# Altium footprint library PAL.PcbLib: 271 footprints (part 16 of 17)
Each footprint in its own frame and in the unit in brackets; x right, y up, seen from the top. Pads: shape width x height; smd on the part's side, far side on the other; paste and mask are expansions set on the pad; w line width, h text height; cw(c..) or ccw(c..) is an arc to the next point about the centre after c.
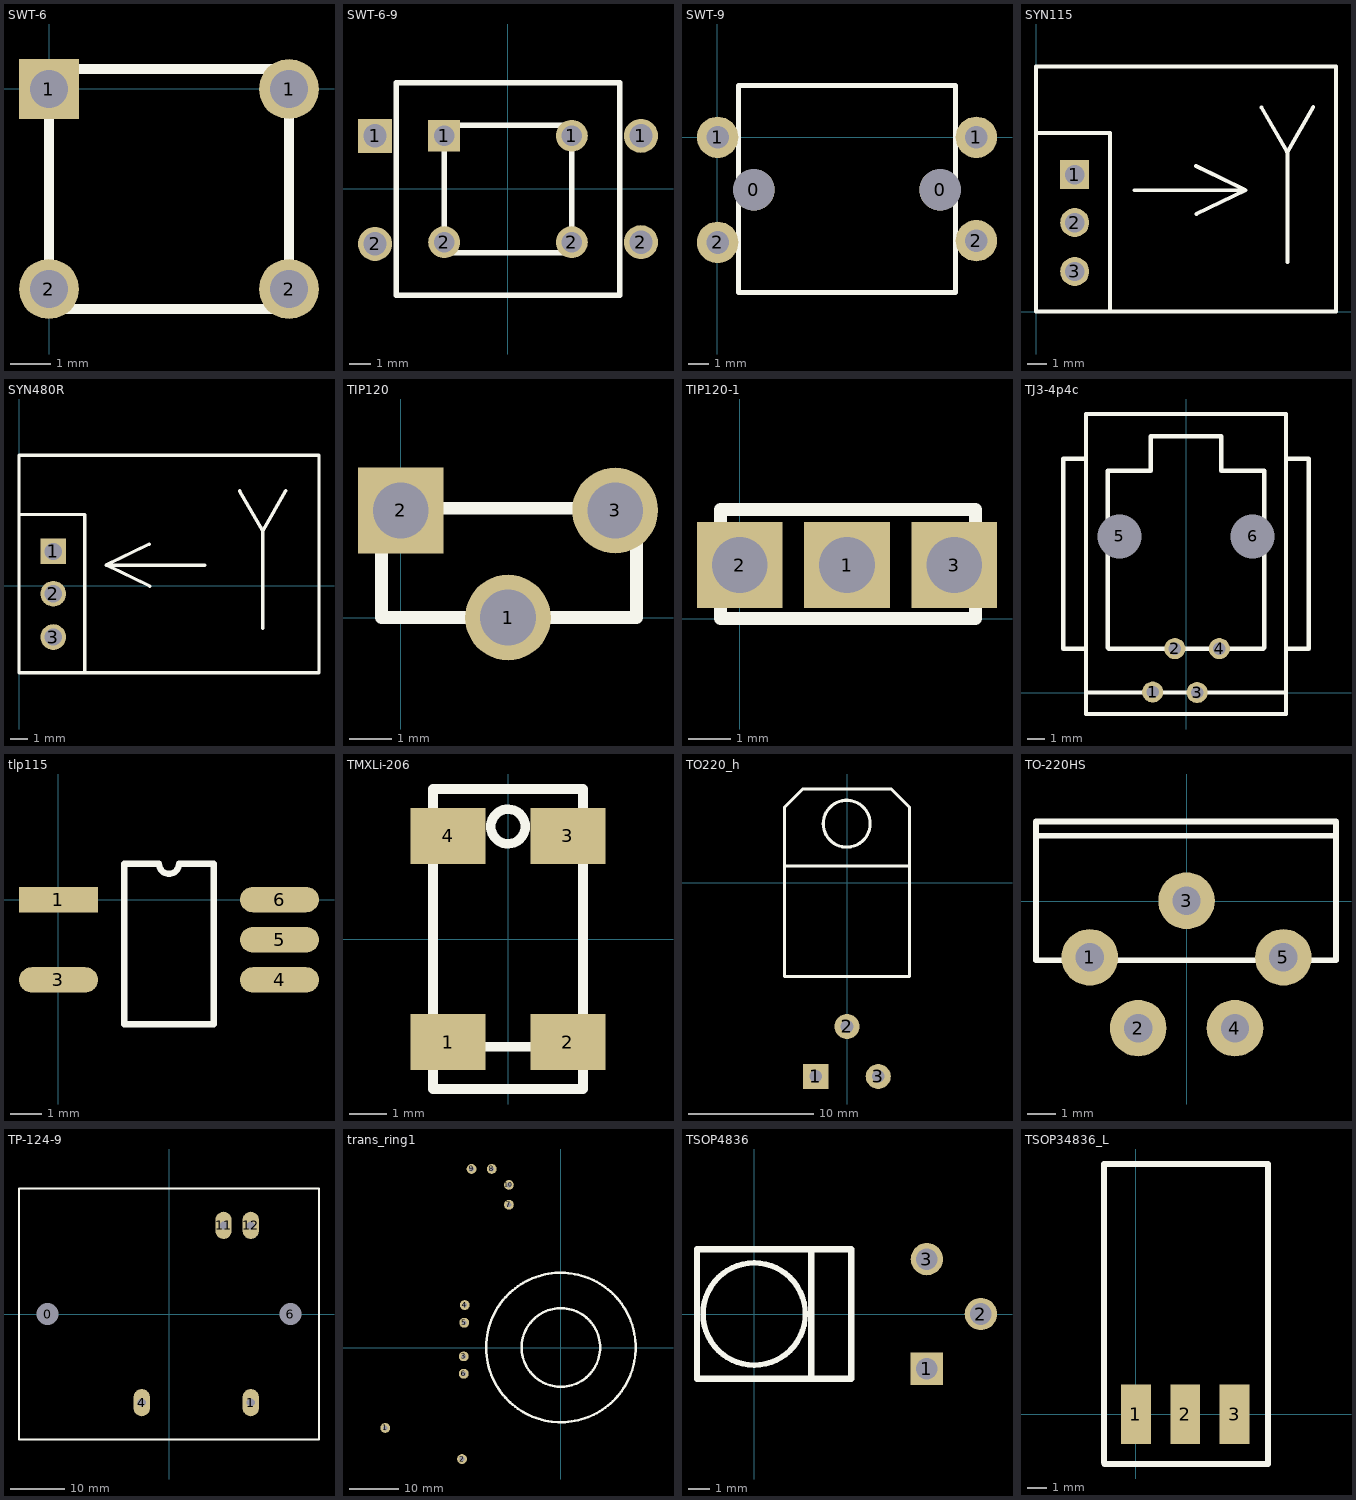
[diagram p15: the footprints below, top view; thin cyan lines are the x and y axes]

## SWT-6 [mm]
pads (4):
  rect 1.5x1.5 on Top hole 0.95: 1(-0.009,-0.001)
  round 1.5 on Top hole 0.95: 1(5.991,-0.001) 2(-0.009,-5.001) 2(5.991,-5.001)
Top Overlay:
  lines w0.254: -0.009,-5.501 5.991,-5.501 5.991,0.499 -0.009,0.499 -0.009,-5.501

## SWT-6-9 [mm]
pads (8):
  rect 1.6x1.6 on Top hole 1.1: 1(-6.241,2.491)
  rect 1.5x1.5 on Top hole 0.95: 1(-2.991,2.493)
  round 1.5 on Top hole 0.95: 1(3.009,2.493) 2(-2.991,-2.507) 2(3.009,-2.507)
  round 1.6 on Top hole 1.1: 1(6.259,2.491) 2(-6.241,-2.589) 2(6.259,-2.509)
Top Overlay:
  lines w0.254: -5.241,-5.009 -5.241,4.991 5.259,4.991 5.259,-5.009 -5.241,-5.009 ; -2.991,-3.007 -2.991,2.993 3.009,2.993 3.009,-3.007 -2.991,-3.007

## SWT-9 [mm]
pads (6):
  round 2 on Top hole 2: 0(1.775,-2.54) 0(10.775,-2.54)
  round 2 on Top hole 1.1: 1(0.025,0) 1(12.525,0) 2(0.025,-5.08) 2(12.525,-5)
Top Overlay:
  lines w0.254: 1.025,-7.5 11.525,-7.5 11.525,2.5 1.025,2.5 1.025,-7.5

## SYN115 [mm]
pads (3):
  rect 1.5x1.5 on Top hole 1: 1(2,7.075)
  round 1.5 on Top hole 1: 2(2,4.6) 3(2,2.075)
Top Overlay:
  lines w0.2: 0,0 0,12.675 15.5,12.675 15.5,0 0.025,0 0,0.025 ; 0,9.225 3.825,9.225 3.825,0 ; 5.075,6.275 10.825,6.275 8.3,5.05 ; 8.275,7.525 10.8,6.3 ; 11.65,10.55 12.975,8.25 ; 13,2.575 13,8.3 ; 13,8.275 14.325,10.575

## SYN480R [mm]
pads (3):
  rect 1.5x1.5 on Top hole 1: 1(2,2)
  round 1.5 on Top hole 1: 2(2,-0.475) 3(2,-3)
Top Overlay:
  lines w0.2: 0,-5.075 0,7.6 17.5,7.6 17.5,-5.075 0.025,-5.075 0,-5.05 ; 0,4.15 3.825,4.15 3.825,-5.075 ; 5.1,1.2 7.625,-0.025 ; 7.6,2.425 5.075,1.2 10.825,1.2 ; 12.875,5.525 14.2,3.225 ; 14.225,-2.5 14.225,3.225 15.55,5.525

## TIP120 [mm]
pads (3):
  round 2 on Top hole 1.3: 1(2.5,0) 3(5,2.5)
  rect 2x2 on Top hole 1.3: 2(0,2.5)
Top Overlay:
  lines w0.3: -0.45,0 0,0 5.5,0 5.5,2.55 -0.45,2.55 -0.45,0

## TIP120-1 [mm]
pads (3):
  rect 2x2 on Top hole 1.3: 1(2.5,1.25) 2(0,1.25) 3(5,1.25)
Top Overlay:
  lines w0.3: -0.45,0 -0.45,2.55 5.5,2.55 5.5,0 0,0 -0.45,0

## TJ3-4p4c [mm]
pads (6):
  round 1.2 on Top hole 0.7: 1(-1.9,0.025) 2(-0.635,2.5) 3(0.635,0) 4(1.9,2.5)
  round 1.2 on Top hole 2.5: 5(-3.8,8.9) 6(3.8,8.9)
Top Overlay:
  lines w0.254: -5.7,2.5 -7,2.5 -7,13.325 -5.7,13.325 ; -0.025,2.5 -4.4,2.5 -4.45,2.55 -4.45,12.65 -2,12.65 -2,14.6 0,14.6 2,14.6 2,12.65 4.45,12.65 4.45,2.55 4.4,2.5 0.025,2.5 ; 5.7,2.5 7,2.5 7,13.325 5.7,13.325 ; -5.7,0 -5.7,-1.225 5.7,-1.225 5.7,0 ; -5.7,0 0,0 5.7,0 ; -5.7,0 -5.7,15.875 0,15.875 5.7,15.875 5.7,0

## tlp115 [mm]
pads (5):
  rect 2.5x0.8 smd: 1(0.001,-0.004)
  oval 2.5x0.8 smd: 3(0.001,-2.544) 4(7.001,-2.544) 5(7.001,-1.274) 6(7.001,-0.004)
Top Overlay:
  lines w0.2: 2.086,-3.949 4.916,-3.949 4.916,1.131 3.818,1.131 cw(c3.501,1.131) 3.183,1.131 2.086,1.131 2.086,-3.949

## TMXLi-206 [mm] "TMXLi-206"
pads (4):
  rect 2x1.5 smd: 1(-1.6,-2.75) 2(1.6,-2.75) 3(1.6,2.75) 4(-1.6,2.75)
Top Overlay:
  circle w0.254: c0,3 r0.461
  lines w0.254: -2,-2.875 1.975,-2.875 ; -2,-4 0,-4 2,-4 2,0 2,4 0,4 -2,4 -2,0 -2,-4

## TO220_h [mm]
pads (3):
  rect 2x2 on Top hole 1: 1(-2.5,-15.5)
  round 2 on Top hole 1: 2(0,-11.5) 3(2.5,-15.5)
Top Overlay:
  circle w0.254: c-0.025,4.725 r1.874
  lines w0.25: -4.975,1.325 4.975,1.325 5,1.35 ; -5,-7.5 0,-7.5 5,-7.5 5,6.05 3.55,7.5 0,7.5 -3.55,7.5 -5,6.05 -5,-7.5

## TO-220HS [mm]
pads (5):
  round 2 on Top hole 1: 1(-3.429,-1.989) 2(-1.719,-4.489) 3(-0.009,0.011) 4(1.701,-4.489) 5(3.411,-1.989)
Top Overlay:
  lines w0.2: -5.329,2.311 5.271,2.311 ; -5.329,-2.089 5.271,-2.089 5.271,2.811 -5.329,2.811 -5.329,-2.089

## TP-124-9 [mm]
pads (6):
  round 3 on Top hole 4: 0(-22.25,0) 6(22.25,0)
  oval 3x5 on Top hole 1.5: 1(15,-16.25) 4(-5,-16.25) 11(10,16.25) 12(15,16.25)
Top Overlay:
  lines w0.3: -27.5,-23 -27.5,0 -27.5,23 0,23 27.5,23 27.5,0 27.5,-23 0,-23 -27.5,-23

## trans_ring1 [mm]
pads (10):
  round 2 on Top hole 1: 1(-35.8,-16.39) 2(-20.15,-22.74) 3(-19.8,-1.79) 4(-19.6,8.66) 5(-19.7,5.06) 6(-19.8,-5.34) 8(-14.1,36.41) 9(-18.2,36.41) 10(-10.6,33.16)
  round 2 on Top hole 1 unplated: 7(-10.6,29.11)
Top Overlay:
  circle w0.5: c0,0.01 r8.001
  circle w0.5: c0,0.01 r15.24

## TSOP4836 [mm]
pads (3):
  rect 1.5x1.5 on Top hole 1: 1(8,-2.54)
  round 1.5 on Top hole 1: 2(10.5,0) 3(8,2.54)
Top Overlay:
  circle w0.254: c0,0 r2.369
  lines w0.3: 2.65,-3 2.65,3 ; -2.65,-3 -2.65,3 4.5,3 4.5,-3 -2.65,-3

## TSOP34836_L [mm]
pads (3):
  rect 1.5x3 smd: 1(0,0) 2(2.5,0) 3(5,0)
Top Overlay:
  lines w0.3: -1.625,-2.45 -1.625,12.7 6.7,12.7 6.7,-2.525 -1.6,-2.525